# EAGLE library part DS90CR218AMTD/NOPB (library U-TI-DS90CR218-LVDSReceiver)
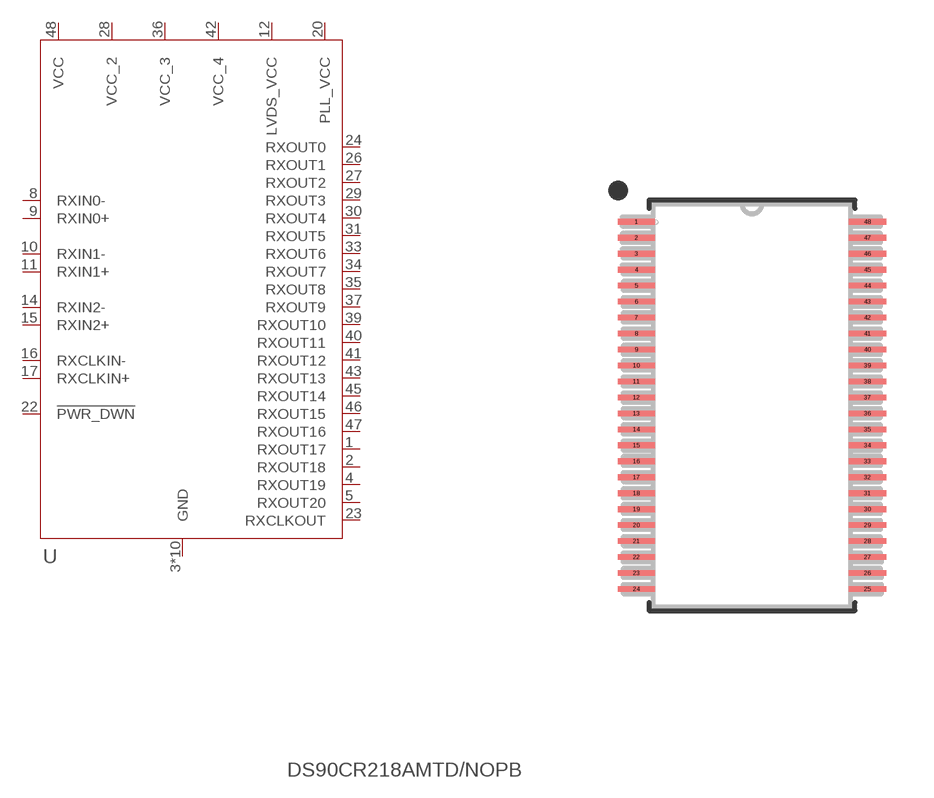
[diagram p0: symbol with the pads of MTD48_TEX-L; footprint MTD48_TEX-L]

Designator prefix U

## DS90CR218AMTD/NOPBMTD48_TEX-L (DIS: Digi-Key; DPN: DS90CR218AMTD/NOPB-ND; MFR: Texas Instruments; MPN: DS90CR218AMTD/NOPB)  [MTD48_TEX-L]
1  RXOUT17  out
2  RXOUT18  out
3  GND  pwr
4  RXOUT19  out
5  RXOUT20  out
7  GND  pwr
8  RXIN0-  in
9  RXIN0+  in
10  RXIN1-  in
11  RXIN1+  in
12  LVDS_VCC  pwr
13  GND  pwr
14  RXIN2-  in
15  RXIN2+  in
16  RXCLKIN-  in
17  RXCLKIN+  in
18  GND  pwr
19  GND  pwr
20  PLL_VCC  pwr
21  GND  pwr
22  !PWR_DWN  in
23  RXCLKOUT  out
24  RXOUT0  out
25  GND  pwr
26  RXOUT1  out
27  RXOUT2  out
28  VCC_2  pwr
29  RXOUT3  out
30  RXOUT4  out
31  RXOUT5  out
32  GND  pwr
33  RXOUT6  out
34  RXOUT7  out
35  RXOUT8  out
36  VCC_3  pwr
37  RXOUT9  out
38  GND  pwr
39  RXOUT10  out
40  RXOUT11  out
41  RXOUT12  out
42  VCC_4  pwr
43  RXOUT13  out
44  GND  pwr
45  RXOUT14  out
46  RXOUT15  out
47  RXOUT16  out
48  VCC  pwr

## Footprint MTD48_TEX-L (pad centres in mm)
smd 1.168 x 0.178: 1 -3.619,5.75; 2 -3.619,5.25; 3 -3.619,4.75; 4 -3.619,4.25; 5 -3.619,3.75; 6 -3.619,3.25; 7 -3.619,2.75; 8 -3.619,2.25; 9 -3.619,1.75; 10 -3.619,1.25; 11 -3.619,0.75; 12 -3.619,0.25; 13 -3.619,-0.25; 14 -3.619,-0.75; 15 -3.619,-1.25; 16 -3.619,-1.75; 17 -3.619,-2.25; 18 -3.619,-2.75; 19 -3.619,-3.25; 20 -3.619,-3.75; 21 -3.619,-4.25; 22 -3.619,-4.75; 23 -3.619,-5.25; 24 -3.619,-5.75; 25 3.619,-5.75; 26 3.619,-5.25; 27 3.619,-4.75; 28 3.619,-4.25; 29 3.619,-3.75; 30 3.619,-3.25; 31 3.619,-2.75; 32 3.619,-2.25; 33 3.619,-1.75; 34 3.619,-1.25; 35 3.619,-0.75; 36 3.619,-0.25; 37 3.619,0.25; 38 3.619,0.75; 39 3.619,1.25; 40 3.619,1.75; 41 3.619,2.25; 42 3.619,2.75; 43 3.619,3.25; 44 3.619,3.75; 45 3.619,4.25; 46 3.619,4.75; 47 3.619,5.25; 48 3.619,5.75